# Altium footprint library LGA-16.PcbLib: 1 footprints
Each footprint in its own frame and in the unit in brackets; x right, y up, seen from the top. Pads: shape width x height; smd on the part's side, far side on the other; paste and mask are expansions set on the pad; w line width, h text height; cw(c..) or ccw(c..) is an arc to the next point about the centre after c.
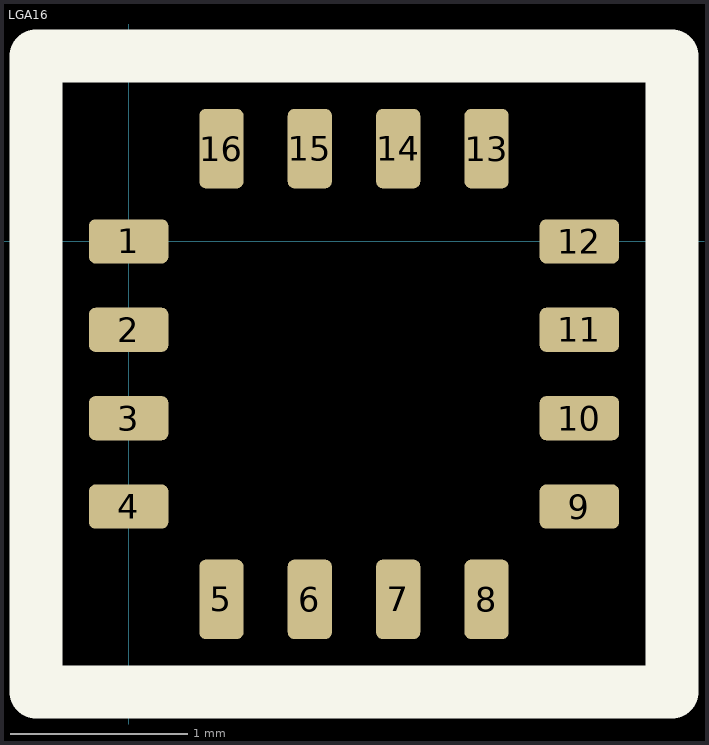
[diagram p0: the footprint, top view; thin cyan lines are the x and y axes]

## LGA16 [mm]
pads (16):
  rrect30% 0.45x0.25 smd mask+0.075: 1(0,0) 2(0,-0.5) 3(0,-1) 4(0,-1.5) 9(2.55,-1.5) 10(2.55,-1) 11(2.55,-0.5) 12(2.55,0)
  rrect30% 0.25x0.45 smd mask+0.075: 5(0.525,-2.025) 6(1.025,-2.025) 7(1.525,-2.025) 8(2.025,-2.025) 13(2.025,0.525) 14(1.525,0.525) 15(1.025,0.525) 16(0.525,0.525)
Top Overlay:
  lines w0.3: -0.525,-2.55 -0.525,1.05 3.075,1.05 3.075,-2.55 -0.525,-2.55
3D body: height 1, standoff 0, extent -0.5,-2.5 3,1